# Altium schematic symbol library SchematicLib.SchLib: 10 symbols
Pins are listed as number, name and electrical type; pins without a type are passive.

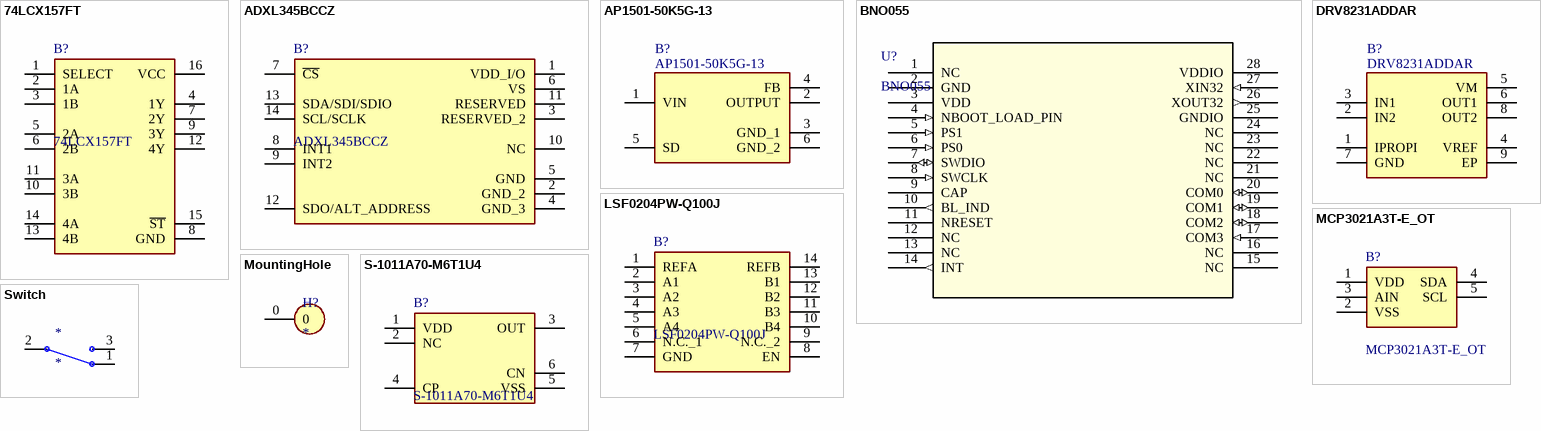
[diagram p0: symbols 74LCX157FT to Switch]

## 74LCX157FT
designator B?
74LCX157FT Toshiba, Multiplexer Quad, -0.5  6.5 V, 16-Pin TSSOP; Geometry.Height: 1.2mm; Mouser Part Number: 757-74LCX157FT; Mouser Price/Stock: https://www.mouser.co.uk/ProductDetail/Toshiba/74LCX157FT?qs=F5EMLAvA7IBvOqmQf3om6A%3D%3D; Manufacturer_Name: Toshiba; Manufacturer_Part_Number: 74LCX157FT; Datasheet Link: https://toshiba.semicon-storage.com/eu/semiconductor/product/general-purpose-logic-ics/detail.74LCX157FT.html
footprint SOP65P640X120-16M
pins: 1 SELECT, 2 1A, 3 1B, 4 1Y, 5 2A, 6 2B, 7 2Y, 8 GND, 9 3Y, 10 3B, 11 3A, 12 4Y, 13 4B, 14 4A, 15 ~{ST}, 16 VCC

## ADXL345BCCZ
designator B?
ADXL345BCCZ, Accelerometer 3-Axis, 0.1  3200 Hz 2  3.6 V, 14-Pin LGA; Manufacturer_Name: Analog Devices; Mouser Part Number: N/A; Mouser Price/Stock: https://www.mouser.co.uk/ProductDetail/Analog-Devices/ADXL345BCCZ?qs=WIvQP4zGanhoa7YOkGtvEg%3D%3D; Manufacturer_Part_Number: ADXL345BCCZ; Datasheet Link: http://componentsearchengine.com/Datasheets/1/ADXL345BCCZ.pdf
footprint LGA14R80P3X6_300X500X100
pins: 1 VDD_I/O, 2 GND_2, 3 RESERVED_2, 4 GND_3, 5 GND, 6 VS, 7 ~{CS}, 8 INT1, 9 INT2, 10 NC, 11 RESERVED, 12 SDO/ALT_ADDRESS, 13 SDA/SDI/SDIO, 14 SCL/SCLK

## AP1501-50K5G-13
designator B?
IC REG BUCK 5V 3A TO263-5; Manufacturer_Name: Diodes Inc.; Geometry.Height: 4.85mm; Mouser Part Number: 621-AP1501-50K5G-13; Mouser Price/Stock: https://www.mouser.co.uk/ProductDetail/Diodes-Incorporated/AP1501-50K5G-13?qs=oUsD4qhOtFyyLLjAHWqfUw%3D%3D; Manufacturer_Part_Number: AP1501-50K5G-13; Datasheet Link: https://www.diodes.com/assets/Datasheets/AP1501.pdf
footprint AP150150K5G13
pins: 1 VIN, 2 OUTPUT, 3 GND_1, 4 FB, 5 SD, 6 GND_2

## BNO055
designator U?
No Description Available; Mfr_Name: Bosch Sensortec; Copyright: Copyright (C) 2024 Ultra Librarian. All rights reserved.; Manufacturer_Part_Number: BNO055; RefDes: RefDes; Type: DEV
footprint QFN_BNO055_BOS
pins: 1 NC, 2 GND (power), 3 VDD (power), 4 NBOOT_LOAD_PIN (in), 5 PS1 (in), 6 PS0 (in), 7 SWDIO (io), 8 SWCLK (in), 9 CAP, 10 BL_IND (out), 11 NRESET, 12 NC, 13 NC, 14 INT (out), 15 NC, 16 NC, 17 COM3 (in), 18 COM2 (io), 19 COM1 (io), 20 COM0 (io), 21 NC, 22 NC, 23 NC, 24 NC, 25 GNDIO (power), 26 XOUT32 (out), 27 XIN32 (in), 28 VDDIO (power)

## DRV8231ADDAR
designator B?
Motor Drives 33V H bridge motor driver with current regulation and current sense feedback; Manufacturer_Name: Texas Instruments; Geometry.Height: 1.7mm; Mouser Part Number: 595-DRV8231ADDAR; Mouser Price/Stock: https://www.mouser.co.uk/ProductDetail/Texas-Instruments/DRV8231ADDAR?qs=Li%252BoUPsLEnsv4Ur6m37LNQ%3D%3D; Manufacturer_Part_Number: DRV8231ADDAR; Datasheet Link: https://www.ti.com/lit/ds/symlink/drv8231a.pdf?ts=1647897918552&ref_url=https%253A%252F%252Fwww.ti.com%252Fstore%252Fti%252Fen%252Fp%252Fproduct%252F%253Fp%253DDRV8231ADDAR%2526keyMatch%253DDRV8231ADDAR%2526tisearch%253Dsearch-everything%2526usecase%253DO
footprint SOIC127P600X170-9M
pins: 1 IPROPI, 2 IN2, 3 IN1, 4 VREF, 5 VM, 6 OUT1, 7 GND, 8 OUT2, 9 EP

## LSF0204PW-Q100J
designator B?
Translation - Voltage Levels ANALOG & LOGIC ICS; Manufacturer_Name: Nexperia; Geometry.Height: 1.1mm; Mouser Part Number: 771-LSF0204PW-Q100J; Mouser Price/Stock: https://www.mouser.co.uk/ProductDetail/Nexperia/LSF0204PW-Q100J?qs=DPoM0jnrROXA8naUdxkzeA%3D%3D; Manufacturer_Part_Number: LSF0204PW-Q100J; Datasheet Link: https://assets.nexperia.com/documents/data-sheet/LSF0204_Q100.pdf
footprint SOP65P640X110-14M
pins: 1 REFA, 2 A1, 3 A2, 4 A3, 5 A4, 6 N.C._1, 7 GND, 8 EN, 9 N.C._2, 10 B4, 11 B3, 12 B2, 13 B1, 14 REFB

## MCP3021A3T-E_OT
designator B?
Analog to Digital Converters - ADC 10-bit ADC I2C Single Channel; Manufacturer_Name: Microchip; Manufacturer_Part_Number: MCP3021A3T-E/OT; Geometry.Height: 1.45mm; Mouser Part Number: 579-MCP3021A3T-E/OT; Mouser Price/Stock: https://www.mouser.co.uk/ProductDetail/Microchip-Technology/MCP3021A3T-E-OT?qs=uHi2%2FQoPa5Cra0xx31l%252Buw%3D%3D; Datasheet Link: http://www.microchip.com/mymicrochip/filehandler.aspx?ddocname=en011709
footprint SOT95P280X145-5M
pins: 1 VDD, 2 VSS, 3 AIN, 4 SDA, 5 SCL

## MountingHole
designator H?
pins: 0

## S-1011A70-M6T1U4
designator B?
Supervisory Circuits VOLTAGE DETECTOR; Manufacturer_Name: ABLIC Inc.; Geometry.Height: 1.35mm; Mouser Part Number: 628-S-1011A70-M6T1U4; Mouser Price/Stock: https://www.mouser.co.uk/ProductDetail/ABLIC/S-1011A70-M6T1U4?qs=sE1HjTVAc2hYS3q6FFCWDQ%3D%3D; Manufacturer_Part_Number: S-1011A70-M6T1U4; Datasheet Link: https://www.digikey.co.uk/en/products/detail/ablic-u-s-a-inc/S-1011A70-M6T1U4/6601814
footprint SOT95P275X135-6N
pins: 1 VDD, 2 NC, 3 OUT, 4 CP, 5 VSS, 6 CN

## Switch
designator *
pins: 1, 2, 3